# Altium schematic symbol library Gates.SchLib: 1 symbol
Pins are listed as number, name and electrical type; pins without a type are passive.

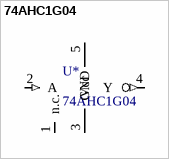
[diagram p0: symbol 74AHC1G04]

## 74AHC1G04
designator U*
74AHC1G04 and 74AHCT1G04 are high-speed Si-gate CMOS devices. They provide an  inverting buffer.; Mffr 1: NXP; Mffr 1 PN: 74AHC1G04
footprint TSSOP5 (SOT353-1)
pins: 1 n.c., 2 A (in), 3 GND (power), 4 Y (out), 5 Vcc